# EAGLE library part ST1S10 (library BaseApp)
Digikey No :- __497-6904-1-ND__
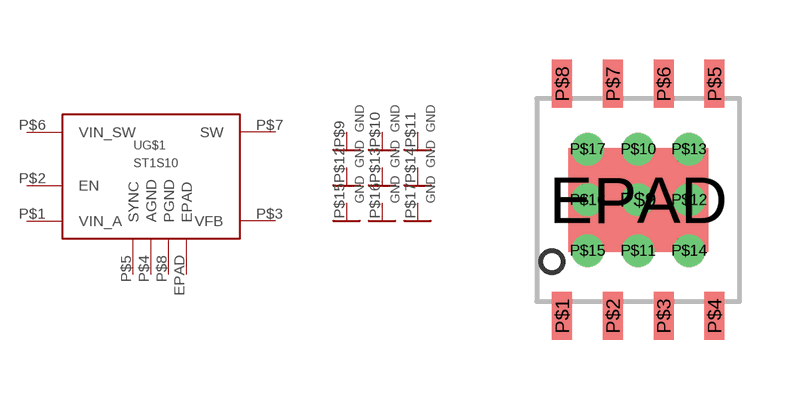
[diagram p70: symbol with the pads of ST1S10; footprint ST1S10]

Designator prefix -; gates G$1=ST1S10 G$2=GND G$3=GND G$4=GND G$5=GND G$6=GND G$7=GND G$8=GND G$9=GND G$10=GND

## ST1S10  [ST1S10]
EPAD  G$1:EPAD
P$1  G$1:VIN_A
P$2  G$1:EN
P$3  G$1:VFB
P$4  G$1:AGND
P$5  G$1:SYNC
P$6  G$1:VIN_SW
P$7  G$1:SW
P$8  G$1:PGND
P$9  G$2:GND  sup
P$10  G$3:GND  sup
P$11  G$4:GND  sup
P$12  G$5:GND  sup
P$13  G$6:GND  sup
P$14  G$7:GND  sup
P$15  G$8:GND  sup
P$16  G$9:GND  sup
P$17  G$10:GND  sup

## Footprint ST1S10 (pad centres in mm)
smd 3.5 x 2.6: EPAD 0,0
smd 0.5 x 1.2: P$1 -1.905,-2.904; P$2 -0.635,-2.904; P$3 0.635,-2.904; P$4 1.905,-2.904; P$5 1.905,2.904; P$6 0.635,2.904; P$7 -0.635,2.904; P$8 -1.905,2.904
drill 0.305: P$9 0,0; P$10 0,1.27; P$11 0,-1.27; P$12 1.27,0; P$13 1.27,1.27; P$14 1.27,-1.27; P$15 -1.27,-1.27; P$16 -1.27,0; P$17 -1.27,1.27